# EAGLE library part 6P-2.54-TH (library CYCFI_Con)
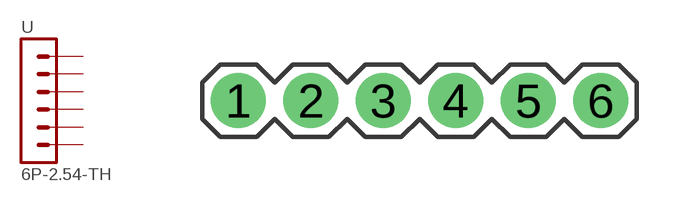
[diagram p31: symbol with the pads of 6P-2.54-TH; footprint 6P-2.54-TH]

Designator prefix -

## 6P-2.54-TH  [6P-2.54-TH]
1  1  pas
2  2  pas
3  3  pas
4  4  pas
5  5  pas
6  6  pas

## Footprint 6P-2.54-TH (pad centres in mm)
drill 1 pad 1.93: 1 -6.35,0; 2 -3.81,0; 3 -1.27,0; 4 1.27,0; 5 3.81,0; 6 6.35,0